# Altium schematic symbol library GS66508T.Schlib: 1 symbol
Pins are listed as number, name and electrical type; pins without a type are passive.

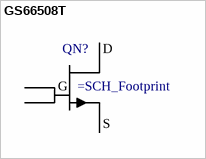
[diagram p0: symbol GS66508T]

## GS66508T
designator QN?  (value not drawn)
GAN TRANS E-MODE 650V 60A TOP SIDE COOL
pins: 1 D, 2 G1, 3 S, 4 G2
text: G